# Altium schematic symbol library SeniorDesign1.SchLib: 1 symbol
Pins are listed as number, name and electrical type; pins without a type are passive.

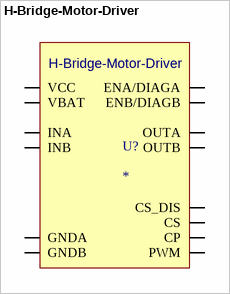
[diagram p0: symbol H-Bridge-Motor-Driver]

## H-Bridge-Motor-Driver
designator U?
The VHN5019A-E is a full bridge motor driver / intended for a wide range of automotive / applications. The device incorporates a dual / monolithic high-side drivers and two low-side / switches.
footprint H-Bridge-Motor-Driver
pins: CP, CS, CS_DIS, ENA/DIAGA, ENB/DIAGB, GNDA, GNDB, INA, INB, OUTA, OUTB, PWM, VBAT, VCC